# EAGLE library part TPS55340 (library Eagle_CAD_parts)
Boost Switching Regulator IC Positive, Isolation Capable Adjustable 2.9V 1 Output 5.25A (Switch) 16-WFQFN Exposed Pad
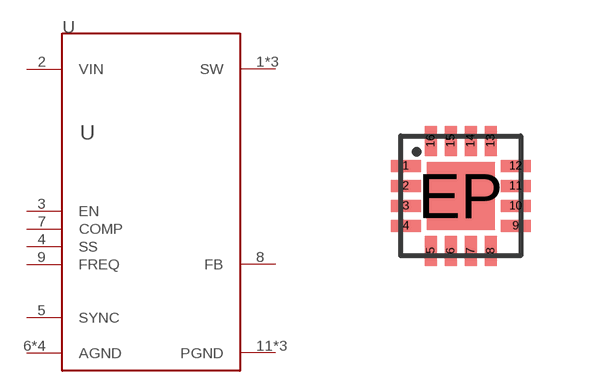
[diagram p79: symbol with the pads of 16-WQFN-3X3; footprint 16-WQFN-3X3]

Designator prefix U

## TPS55340RTER (DIGIKEY_PART_NUMBER: 296-37677-1-ND; IOUT: 5.25 A (Switch); MANUFACTURER_PART_NUMBER: TPS55340RTER; TYPE: Boost; VIN: 2.9V ~ 32V; VOUT: 2.9V ~ 38V)  [16-WQFN-3X3]
1  SW
2  VIN
3  EN
4  SS
5  SYNC
6  AGND
7  COMP
8  FB
9  FREQ
10  AGND
11  PGND
12  PGND
13  PGND
14  AGND
15  SW
16  SW
EP  AGND

## Footprint 16-WQFN-3X3 (pad centres in mm)
smd 0.75 x 0.3: 1 -1.375,0.75; 2 -1.375,0.25; 3 -1.375,-0.25; 4 -1.375,-0.75; 9 1.375,-0.75; 10 1.375,-0.25; 11 1.375,0.25; 12 1.375,0.75
smd 0.3 x 0.75: 5 -0.75,-1.375; 6 -0.25,-1.375; 7 0.25,-1.375; 8 0.75,-1.375; 13 0.75,1.375; 14 0.25,1.375; 15 -0.25,1.375; 16 -0.75,1.375
smd 1.7 x 1.7: EP 0,0